# Altium footprint library 3-TO-92.PcbLib: 1 footprints
Each footprint in its own frame and in the unit in brackets; x right, y up, seen from the top. Pads: shape width x height; smd on the part's side, far side on the other; paste and mask are expansions set on the pad; w line width, h text height; cw(c..) or ccw(c..) is an arc to the next point about the centre after c.
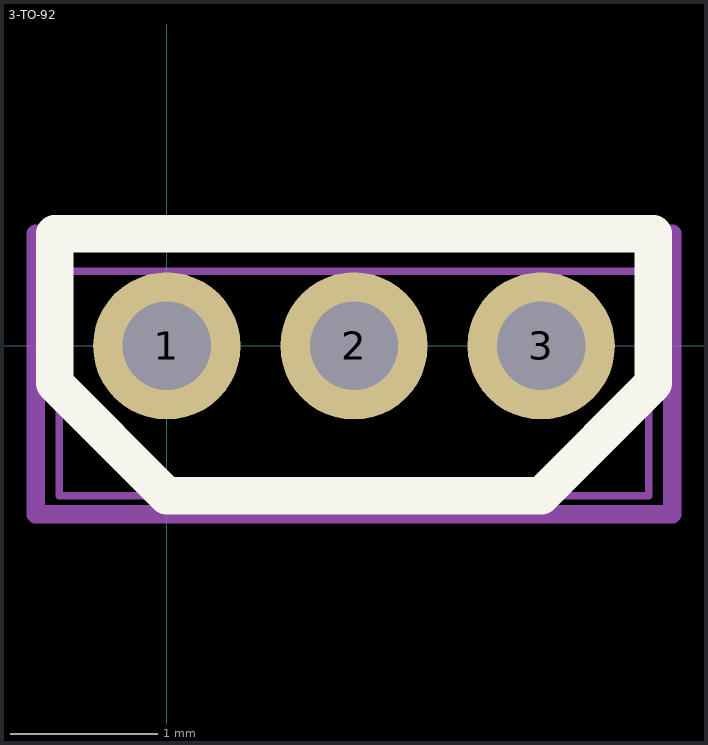
[diagram p0: the footprint, top view; thin cyan lines are the x and y axes]

## 3-TO-92 [mm]
pads (3):
  round 1 hole 0.6: 1(0,0) 2(1.27,0) 3(2.54,0)
Top Overlay:
  lines w0.254: -0.762,-0.254 -0.762,0.762 3.302,0.762 3.302,-0.254 2.54,-1.016 0,-1.016 -0.762,-0.254
Mechanical 13:
  lines w0.051: -0.73,-1.016 3.27,-1.016 3.27,0.508 -0.73,0.508 -0.73,-1.016
Mechanical 15:
  lines w0.127: 1.016,0 1.524,0 ; 1.27,-0.254 1.27,0.254 ; -0.889,-1.143 3.429,-1.143 3.429,0.762 -0.889,0.762 -0.889,-1.143
Mechanical 17:
  text "'.Designator'" at 0.127,-0.762 h0.2
3D body "LPG0003A.stp": height 5.05, standoff -13.4, extent -0.73,-1.016 3.27,0.504
3D body: height 16.55, standoff -1.31, extent 2.159,1.143 2.159,1.143